# EAGLE library part DRV8876 (library texas_instrument)
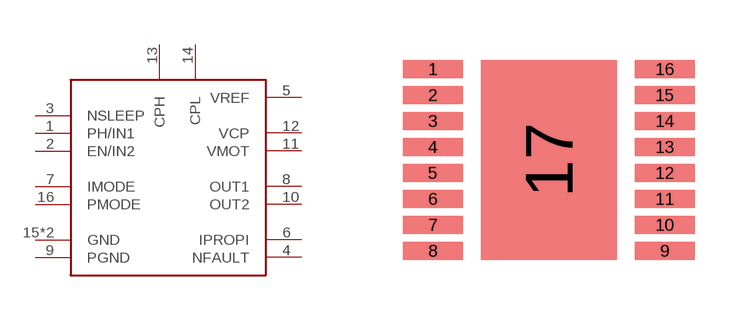
[diagram p0: symbol with the pads of HTSSOP; footprint HTSSOP]

Designator prefix DRV

## DRV8876  [HTSSOP]
1  PH/IN1
2  EN/IN2
3  NSLEEP
4  NFAULT
5  VREF
6  IPROPI
7  IMODE
8  OUT1
9  PGND
10  OUT2
11  VMOT
12  VCP
13  CPH
14  CPL
15  GND
16  PMODE
17  GND

## Footprint HTSSOP (pad centres in mm)
smd 1.5 x 0.45: 1 -2.9,2.275; 2 -2.9,1.625; 3 -2.9,0.975; 4 -2.9,0.325; 5 -2.9,-0.325; 6 -2.9,-0.975; 7 -2.9,-1.625; 8 -2.9,-2.275; 9 2.9,-2.275; 10 2.9,-1.625; 11 2.9,-0.975; 12 2.9,-0.325; 13 2.9,0.325; 14 2.9,0.975; 15 2.9,1.625; 16 2.9,2.275
smd 3.4 x 5: 17 0,0